# EAGLE library part MQ2-SMOKE-SENSOR (library stutz-components-library)
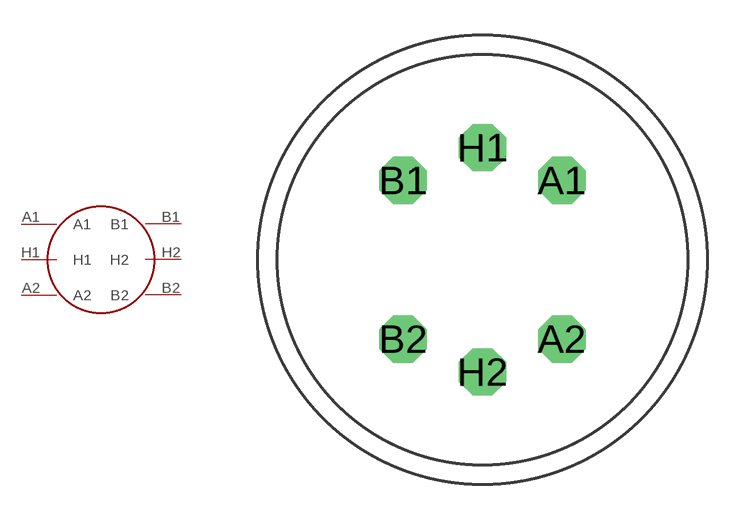
[diagram p18: symbol with the pads of MQ2-SMOKE-SENSOR; footprint MQ2-SMOKE-SENSOR]

Designator prefix -

## MQ2-SMOKE-SENSOR  [MQ2-SMOKE-SENSOR]
A1  A1
A2  A2
B1  B1
B2  B2
H1  H1
H2  H2

## Footprint MQ2-SMOKE-SENSOR (pad centres in mm)
drill 1 pad 2 octagon: A1 3.358,3.358; A2 3.358,-3.358; B1 -3.358,3.358; B2 -3.358,-3.358; H1 0,4.75; H2 0,-4.75